# Altium integrated library TI Data Converters Analog to Digital Converter.IntLib: 2198 symbols (part 94 of 164)
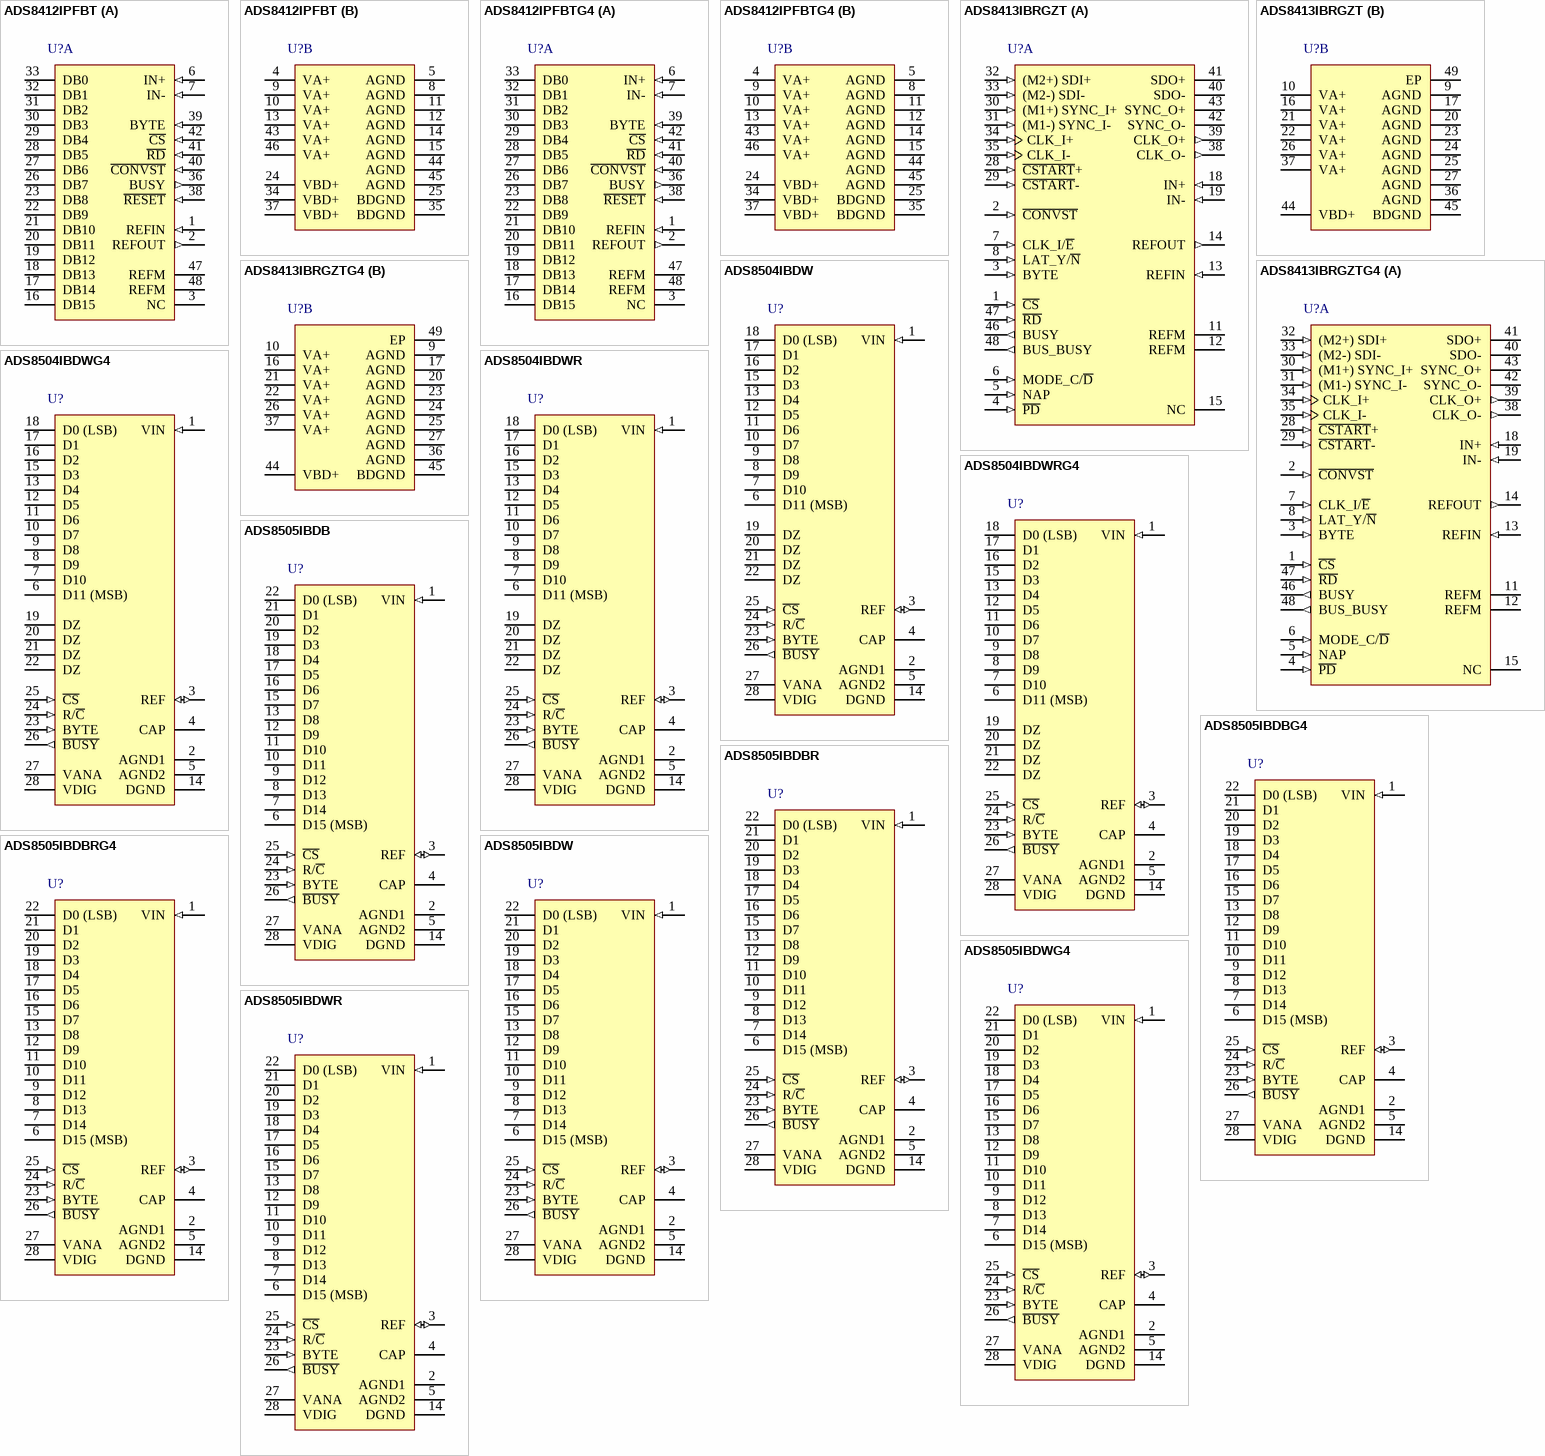
[diagram p219: symbols ADS8412IPFBT to ADS8505IBDWR]

## ADS8505IBDWG4
designator U?
16-Bit 250 kHz CMOS ADC with Parallel Interface 2.5 V Internal Reference, -40 to 85 degC, 28-pin SOIC (DW28), Green (RoHS & no Sb/Br); Manufacturer: Texas Instruments; PartNumber: ADS8505IBDWG4; # Input Channels: 1; Analog Voltage AV/DD(Max)(V): 5.25; Analog Voltage AV/DD(Min)(V): 4.75; Architecture: SAR; INL(Max)(+/-LSB): 1.5; Interface: Parallel CMOS; Resolution(Bits): 16; Sample Rate (max)(SPS): 250k; SFDR(dB): 105; SINAD(dB): 88; SubFamily: Precision ADC (<=10MSPS); DatasheetVersion: SLAS180B; PackageVersion: 4040000-6/G, 01/2011; PackageReference: DW28; PackageDescription: 28-Pin Plastic Small Outline, Body 17.90 x 7.50 mm, Pitch 1.27 mm; Supplier 1: Digi-Key; Supplier Part Number 1: ADS7816UCG4-ND; Digital Supply(Max)(V): 5.25; Digital Supply(Min)(V): 4.75; Eco-Plan: Green (RoHS & no Sb/Br); SNR(dB): 88; Mounting Technology: Surface Mount; Code_JEDEC: MS-013; ComponentLink1Description: Manufacturer URL; ComponentLink1URL: http://www.ti.com/; ComponentLink2Description: Datasheet; ComponentLink2URL: http://www.ti.com/general/docs/lit/getliterature.tsp?genericPartNumber=ADS8505&fileType=pdf; ComponentLink3Description: Package Specification; ComponentLink3URL: http://www.ti.com/lit/ml/mpds175a/mpds175a.pdf
footprint TI-DW28_N (SOIC, 28-Leads, Body 17.9x7.5mm, Pitch 1.27mm, IPC Medium Density)
footprint TI-DW28_L (SOIC, 28-Leads, Body 17.9x7.5mm, Pitch 1.27mm, IPC High Density)
footprint TI-DW28_M (SOIC, 28-Leads, Body 17.9x7.5mm, Pitch 1.27mm, IPC Low Density)
pins: 1 VIN (in) "Analog input.", 2 AGND1 (power) "Analog ground. Used internally as ground reference point.", 3 REF (io) "Reference input/output. 2.2-uF Tantalum capacitor to ground.", 4 CAP "Reference buffer capacitor. 2.2-uF Tantalum capacitor to ground.", 5 AGND2 (power) "Analog ground.", 6 D15 (MSB) (hiz) "Data bit 15. Most significant bit (MSB) of conversion results. Hi-Z state when C\S\ is high, or when R/C\ is low.", 7 D14 (hiz) "Data bit 14. Hi-Z state when C\S\ is high, or when R/C\ is low.", 8 D13 (hiz) "Data bit 13. Hi-Z state when C\S\ is high, or when R/C\ is low.", 9 D12 (hiz) "Data bit 12. Hi-Z state when C\S\ is high, or when R/C\ is low.", 10 D11 (hiz) "Data bit 11. Hi-Z state when C\S\ is high, or when R/C\ is low.", 11 D10 (hiz) "Data bit 10. Hi-Z state when C\S\ is high, or when R/C\ is low.", 12 D9 (hiz) "Data bit 9. Hi-Z state when C\S\ is high, or when R/C\ is low.", 13 D8 (hiz) "Data bit 8. Hi-Z state when C\S\ is high, or when R/C\ is low.", 14 DGND (power) "Digital ground.", 15 D7 (hiz) "Data bit 7. Hi-Z state when C\S\ is high, or when R/C\ is low.", 16 D6 (hiz) "Data bit 6. Hi-Z state when C\S\ is high, or when R/C\ is low.", 17 D5 (hiz) "Data bit 5. Hi-Z state when C\S\ is high, or when R/C\ is low.", 18 D4 (hiz) "Data bit 4. Hi-Z state when C\S\ is high, or when R/C\ is low.", 19 D3 (hiz) "Data bit 3. Hi-Z state when C\S\ is high, or when R/C\ is low.", 20 D2 (hiz) "Data bit 2. Hi-Z state when C\S\ is high, or when R/C\ is low.", 21 D1 (hiz) "Data bit 1. Hi-Z state when C\S\ is high, or when R/C\ is low.", 22 D0 (LSB) (hiz) "Data bit 0. Least significant bit (LSB) of conversion results. Hi-Z state when C\S\ is high, or when R/C\ is low.", 23 BYTE (in) "Selects 8 most significant bits (low) or 8 least significant bits (high).", 24 R/~{C} (in) "With C\S\ low and B\U\S\Y\ high, a falling edge on R/C\ initiates a new conversion. With C\S\ low, a rising edge on R/C\ enables the parallel output.", 25 ~{CS} (in) "Internally ORed with R/C\. If R/C\ is low, a falling edge on C\S\ initiates a new conversion", 26 ~{BUSY} (out) "At the start of a conversion, B\U\S\Y\ goes low and stays low until the conversion is completed and the digital outputs have been updated.", 27 VANA (power) "Analog supply input. Nominally +5 V. Decouple to ground with 0.1-uF ceramic and 10-uF tantalum capacitors.", 28 VDIG (power) "Digital supply input. Nominally +5 V. Connect directly to pin 27. Must be =< VANA ."

## ADS8505IBDWR
designator U?
16-Bit 250 kHz CMOS ADC with Parallel Interface 2.5 V Internal Reference, -40 to 85 degC, 28-pin SOIC (DW28), Green (RoHS & no Sb/Br); Manufacturer: Texas Instruments; PartNumber: ADS8505IBDWR; # Input Channels: 1; Analog Voltage AV/DD(Max)(V): 5.25; Analog Voltage AV/DD(Min)(V): 4.75; Architecture: SAR; INL(Max)(+/-LSB): 1.5; Interface: Parallel CMOS; Resolution(Bits): 16; Sample Rate (max)(SPS): 250k; SFDR(dB): 105; SINAD(dB): 88; SubFamily: Precision ADC (<=10MSPS); DatasheetVersion: SLAS180B; PackageVersion: 4040000-6/G, 01/2011; PackageReference: DW28; PackageDescription: 28-Pin Plastic Small Outline, Body 17.90 x 7.50 mm, Pitch 1.27 mm; Supplier 1: Digi-Key; Supplier Part Number 1: ADS7816UG4-ND; Digital Supply(Max)(V): 5.25; Digital Supply(Min)(V): 4.75; Eco-Plan: Green (RoHS & no Sb/Br); SNR(dB): 88; Mounting Technology: Surface Mount; Code_JEDEC: MS-013; ComponentLink1Description: Manufacturer URL; ComponentLink1URL: http://www.ti.com/; ComponentLink2Description: Datasheet; ComponentLink2URL: http://www.ti.com/general/docs/lit/getliterature.tsp?genericPartNumber=ADS8505&fileType=pdf; ComponentLink3Description: Package Specification; ComponentLink3URL: http://www.ti.com/lit/ml/mpds175a/mpds175a.pdf
footprint TI-DW28_N (SOIC, 28-Leads, Body 17.9x7.5mm, Pitch 1.27mm, IPC Medium Density)
footprint TI-DW28_L (SOIC, 28-Leads, Body 17.9x7.5mm, Pitch 1.27mm, IPC High Density)
footprint TI-DW28_M (SOIC, 28-Leads, Body 17.9x7.5mm, Pitch 1.27mm, IPC Low Density)
pins: 1 VIN (in) "Analog input.", 2 AGND1 (power) "Analog ground. Used internally as ground reference point.", 3 REF (io) "Reference input/output. 2.2-uF Tantalum capacitor to ground.", 4 CAP "Reference buffer capacitor. 2.2-uF Tantalum capacitor to ground.", 5 AGND2 (power) "Analog ground.", 6 D15 (MSB) (hiz) "Data bit 15. Most significant bit (MSB) of conversion results. Hi-Z state when C\S\ is high, or when R/C\ is low.", 7 D14 (hiz) "Data bit 14. Hi-Z state when C\S\ is high, or when R/C\ is low.", 8 D13 (hiz) "Data bit 13. Hi-Z state when C\S\ is high, or when R/C\ is low.", 9 D12 (hiz) "Data bit 12. Hi-Z state when C\S\ is high, or when R/C\ is low.", 10 D11 (hiz) "Data bit 11. Hi-Z state when C\S\ is high, or when R/C\ is low.", 11 D10 (hiz) "Data bit 10. Hi-Z state when C\S\ is high, or when R/C\ is low.", 12 D9 (hiz) "Data bit 9. Hi-Z state when C\S\ is high, or when R/C\ is low.", 13 D8 (hiz) "Data bit 8. Hi-Z state when C\S\ is high, or when R/C\ is low.", 14 DGND (power) "Digital ground.", 15 D7 (hiz) "Data bit 7. Hi-Z state when C\S\ is high, or when R/C\ is low.", 16 D6 (hiz) "Data bit 6. Hi-Z state when C\S\ is high, or when R/C\ is low.", 17 D5 (hiz) "Data bit 5. Hi-Z state when C\S\ is high, or when R/C\ is low.", 18 D4 (hiz) "Data bit 4. Hi-Z state when C\S\ is high, or when R/C\ is low.", 19 D3 (hiz) "Data bit 3. Hi-Z state when C\S\ is high, or when R/C\ is low.", 20 D2 (hiz) "Data bit 2. Hi-Z state when C\S\ is high, or when R/C\ is low.", 21 D1 (hiz) "Data bit 1. Hi-Z state when C\S\ is high, or when R/C\ is low.", 22 D0 (LSB) (hiz) "Data bit 0. Least significant bit (LSB) of conversion results. Hi-Z state when C\S\ is high, or when R/C\ is low.", 23 BYTE (in) "Selects 8 most significant bits (low) or 8 least significant bits (high).", 24 R/~{C} (in) "With C\S\ low and B\U\S\Y\ high, a falling edge on R/C\ initiates a new conversion. With C\S\ low, a rising edge on R/C\ enables the parallel output.", 25 ~{CS} (in) "Internally ORed with R/C\. If R/C\ is low, a falling edge on C\S\ initiates a new conversion", 26 ~{BUSY} (out) "At the start of a conversion, B\U\S\Y\ goes low and stays low until the conversion is completed and the digital outputs have been updated.", 27 VANA (power) "Analog supply input. Nominally +5 V. Decouple to ground with 0.1-uF ceramic and 10-uF tantalum capacitors.", 28 VDIG (power) "Digital supply input. Nominally +5 V. Connect directly to pin 27. Must be =< VANA ."

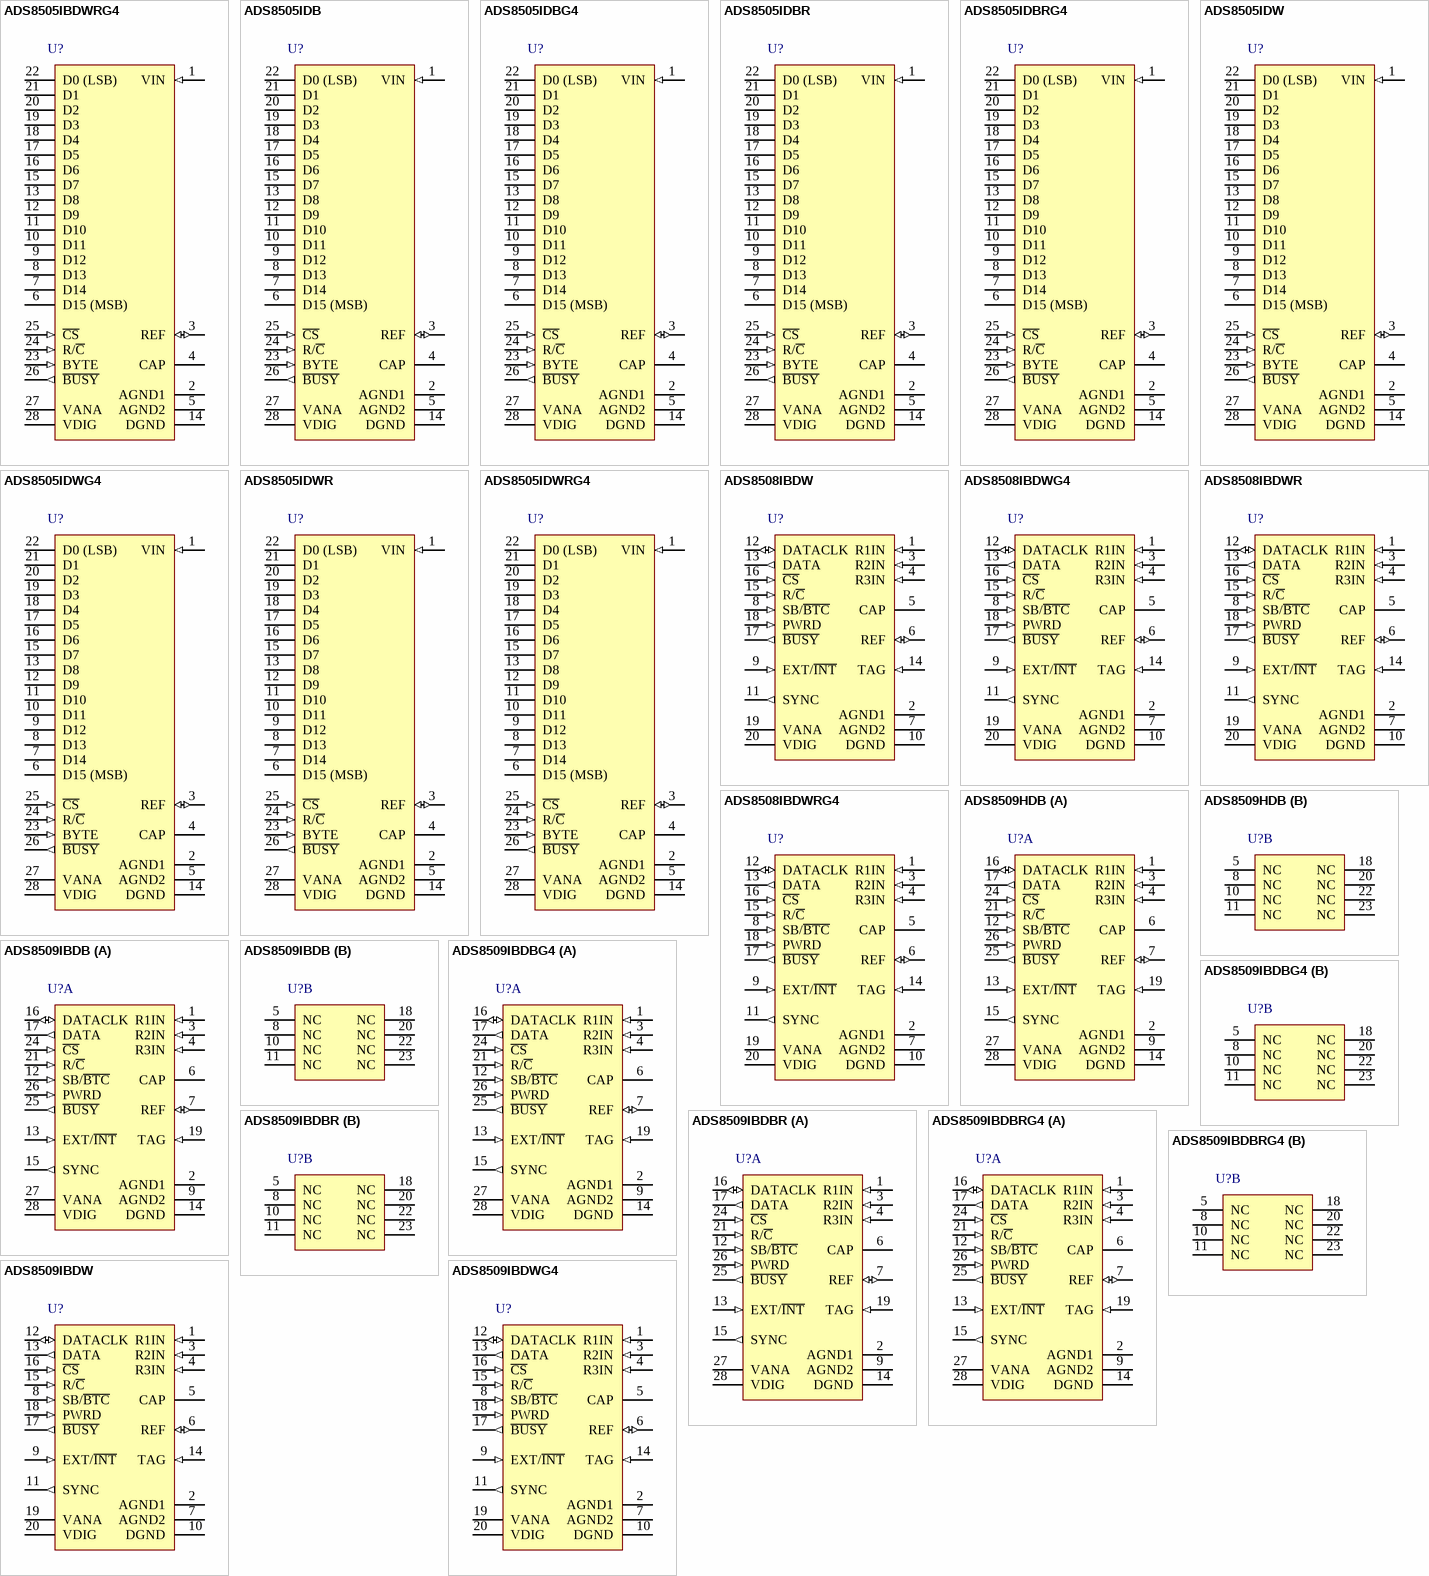
[diagram p83: symbols ADS8505IBDWRG4 to ADS8509IBDWG4]

## ADS8505IBDWRG4
designator U?
16-Bit 250 kHz CMOS ADC with Parallel Interface 2.5 V Internal Reference, -40 to 85 degC, 28-pin SOIC (DW28), Green (RoHS & no Sb/Br); Manufacturer: Texas Instruments; PartNumber: ADS8505IBDWRG4; # Input Channels: 1; Analog Voltage AV/DD(Max)(V): 5.25; Analog Voltage AV/DD(Min)(V): 4.75; Architecture: SAR; INL(Max)(+/-LSB): 1.5; Interface: Parallel CMOS; Resolution(Bits): 16; Sample Rate (max)(SPS): 250k; SFDR(dB): 105; SINAD(dB): 88; SubFamily: Precision ADC (<=10MSPS); DatasheetVersion: SLAS180B; PackageVersion: 4040000-6/G, 01/2011; PackageReference: DW28; PackageDescription: 28-Pin Plastic Small Outline, Body 17.90 x 7.50 mm, Pitch 1.27 mm; Supplier 1: Digi-Key; Supplier Part Number 1: ADS1286P-ND; Digital Supply(Max)(V): 5.25; Digital Supply(Min)(V): 4.75; Eco-Plan: Green (RoHS & no Sb/Br); SNR(dB): 88; Mounting Technology: Surface Mount; Code_JEDEC: MS-013; ComponentLink1Description: Manufacturer URL; ComponentLink1URL: http://www.ti.com/; ComponentLink2Description: Datasheet; ComponentLink2URL: http://www.ti.com/general/docs/lit/getliterature.tsp?genericPartNumber=ADS8505&fileType=pdf; ComponentLink3Description: Package Specification; ComponentLink3URL: http://www.ti.com/lit/ml/mpds175a/mpds175a.pdf
footprint TI-DW28_N (SOIC, 28-Leads, Body 17.9x7.5mm, Pitch 1.27mm, IPC Medium Density)
footprint TI-DW28_L (SOIC, 28-Leads, Body 17.9x7.5mm, Pitch 1.27mm, IPC High Density)
footprint TI-DW28_M (SOIC, 28-Leads, Body 17.9x7.5mm, Pitch 1.27mm, IPC Low Density)
pins: 1 VIN (in) "Analog input.", 2 AGND1 (power) "Analog ground. Used internally as ground reference point.", 3 REF (io) "Reference input/output. 2.2-uF Tantalum capacitor to ground.", 4 CAP "Reference buffer capacitor. 2.2-uF Tantalum capacitor to ground.", 5 AGND2 (power) "Analog ground.", 6 D15 (MSB) (hiz) "Data bit 15. Most significant bit (MSB) of conversion results. Hi-Z state when C\S\ is high, or when R/C\ is low.", 7 D14 (hiz) "Data bit 14. Hi-Z state when C\S\ is high, or when R/C\ is low.", 8 D13 (hiz) "Data bit 13. Hi-Z state when C\S\ is high, or when R/C\ is low.", 9 D12 (hiz) "Data bit 12. Hi-Z state when C\S\ is high, or when R/C\ is low.", 10 D11 (hiz) "Data bit 11. Hi-Z state when C\S\ is high, or when R/C\ is low.", 11 D10 (hiz) "Data bit 10. Hi-Z state when C\S\ is high, or when R/C\ is low.", 12 D9 (hiz) "Data bit 9. Hi-Z state when C\S\ is high, or when R/C\ is low.", 13 D8 (hiz) "Data bit 8. Hi-Z state when C\S\ is high, or when R/C\ is low.", 14 DGND (power) "Digital ground.", 15 D7 (hiz) "Data bit 7. Hi-Z state when C\S\ is high, or when R/C\ is low.", 16 D6 (hiz) "Data bit 6. Hi-Z state when C\S\ is high, or when R/C\ is low.", 17 D5 (hiz) "Data bit 5. Hi-Z state when C\S\ is high, or when R/C\ is low.", 18 D4 (hiz) "Data bit 4. Hi-Z state when C\S\ is high, or when R/C\ is low.", 19 D3 (hiz) "Data bit 3. Hi-Z state when C\S\ is high, or when R/C\ is low.", 20 D2 (hiz) "Data bit 2. Hi-Z state when C\S\ is high, or when R/C\ is low.", 21 D1 (hiz) "Data bit 1. Hi-Z state when C\S\ is high, or when R/C\ is low.", 22 D0 (LSB) (hiz) "Data bit 0. Least significant bit (LSB) of conversion results. Hi-Z state when C\S\ is high, or when R/C\ is low.", 23 BYTE (in) "Selects 8 most significant bits (low) or 8 least significant bits (high).", 24 R/~{C} (in) "With C\S\ low and B\U\S\Y\ high, a falling edge on R/C\ initiates a new conversion. With C\S\ low, a rising edge on R/C\ enables the parallel output.", 25 ~{CS} (in) "Internally ORed with R/C\. If R/C\ is low, a falling edge on C\S\ initiates a new conversion", 26 ~{BUSY} (out) "At the start of a conversion, B\U\S\Y\ goes low and stays low until the conversion is completed and the digital outputs have been updated.", 27 VANA (power) "Analog supply input. Nominally +5 V. Decouple to ground with 0.1-uF ceramic and 10-uF tantalum capacitors.", 28 VDIG (power) "Digital supply input. Nominally +5 V. Connect directly to pin 27. Must be =< VANA ."

## ADS8505IDB
designator U?
16-Bit 250 kHz CMOS ADC with Parallel Interface 2.5 V Internal Reference, -40 to 85 degC, 28-pin SOP (DB28), Green (RoHS & no Sb/Br); Manufacturer: Texas Instruments; PartNumber: ADS8505IDB; # Input Channels: 1; Analog Voltage AV/DD(Max)(V): 5.25; Analog Voltage AV/DD(Min)(V): 4.75; Architecture: SAR; INL(Max)(+/-LSB): 4; Interface: Parallel CMOS; Resolution(Bits): 16; Sample Rate (max)(SPS): 250k; SFDR(dB): 98; SINAD(dB): 88; SubFamily: Precision ADC (<=10MSPS); DatasheetVersion: SLAS180B; PackageVersion: 4040065/E, 12/2001; PackageReference: DB28; PackageDescription: 28-Pin Plastic Small Outline, Body 10.2 X 5.3 mm, Pitch 0.65 mm; Supplier 1: Digi-Key; Supplier Part Number 1: ADS1286PA-ND; Digital Supply(Max)(V): 5.25; Digital Supply(Min)(V): 4.75; Eco-Plan: Green (RoHS & no Sb/Br); SNR(dB): 88; Mounting Technology: Surface Mount; Code_JEDEC: MO-150; ComponentLink1Description: Manufacturer URL; ComponentLink1URL: http://www.ti.com/; ComponentLink2Description: Datasheet; ComponentLink2URL: http://www.ti.com/general/docs/lit/getliterature.tsp?genericPartNumber=ADS8505&fileType=pdf; ComponentLink3Description: Package Specification; ComponentLink3URL: http://www.ti.com/lit/ml/msso002e/msso002e.pdf
footprint TI-DB28_N (SOP, 28-Leads, Body 10.2x5.3mm, Pitch 0.65mm, IPC Medium Density)
footprint TI-DB28_L (SOP, 28-Leads, Body 10.2x5.3mm, Pitch 0.65mm, IPC High Density)
footprint TI-DB28_M (SOP, 28-Leads, Body 10.2x5.3mm, Pitch 0.65mm, IPC Low Density)
pins: 1 VIN (in) "Analog input.", 2 AGND1 (power) "Analog ground. Used internally as ground reference point.", 3 REF (io) "Reference input/output. 2.2-uF Tantalum capacitor to ground.", 4 CAP "Reference buffer capacitor. 2.2-uF Tantalum capacitor to ground.", 5 AGND2 (power) "Analog ground.", 6 D15 (MSB) (hiz) "Data bit 15. Most significant bit (MSB) of conversion results. Hi-Z state when C\S\ is high, or when R/C\ is low.", 7 D14 (hiz) "Data bit 14. Hi-Z state when C\S\ is high, or when R/C\ is low.", 8 D13 (hiz) "Data bit 13. Hi-Z state when C\S\ is high, or when R/C\ is low.", 9 D12 (hiz) "Data bit 12. Hi-Z state when C\S\ is high, or when R/C\ is low.", 10 D11 (hiz) "Data bit 11. Hi-Z state when C\S\ is high, or when R/C\ is low.", 11 D10 (hiz) "Data bit 10. Hi-Z state when C\S\ is high, or when R/C\ is low.", 12 D9 (hiz) "Data bit 9. Hi-Z state when C\S\ is high, or when R/C\ is low.", 13 D8 (hiz) "Data bit 8. Hi-Z state when C\S\ is high, or when R/C\ is low.", 14 DGND (power) "Digital ground.", 15 D7 (hiz) "Data bit 7. Hi-Z state when C\S\ is high, or when R/C\ is low.", 16 D6 (hiz) "Data bit 6. Hi-Z state when C\S\ is high, or when R/C\ is low.", 17 D5 (hiz) "Data bit 5. Hi-Z state when C\S\ is high, or when R/C\ is low.", 18 D4 (hiz) "Data bit 4. Hi-Z state when C\S\ is high, or when R/C\ is low.", 19 D3 (hiz) "Data bit 3. Hi-Z state when C\S\ is high, or when R/C\ is low.", 20 D2 (hiz) "Data bit 2. Hi-Z state when C\S\ is high, or when R/C\ is low.", 21 D1 (hiz) "Data bit 1. Hi-Z state when C\S\ is high, or when R/C\ is low.", 22 D0 (LSB) (hiz) "Data bit 0. Least significant bit (LSB) of conversion results. Hi-Z state when C\S\ is high, or when R/C\ is low.", 23 BYTE (in) "Selects 8 most significant bits (low) or 8 least significant bits (high).", 24 R/~{C} (in) "With C\S\ low and B\U\S\Y\ high, a falling edge on R/C\ initiates a new conversion. With C\S\ low, a rising edge on R/C\ enables the parallel output.", 25 ~{CS} (in) "Internally ORed with R/C\. If R/C\ is low, a falling edge on C\S\ initiates a new conversion", 26 ~{BUSY} (out) "At the start of a conversion, B\U\S\Y\ goes low and stays low until the conversion is completed and the digital outputs have been updated.", 27 VANA (power) "Analog supply input. Nominally +5 V. Decouple to ground with 0.1-uF ceramic and 10-uF tantalum capacitors.", 28 VDIG (power) "Digital supply input. Nominally +5 V. Connect directly to pin 27. Must be =< VANA ."

## ADS8505IDBG4
designator U?
16-Bit 250 kHz CMOS ADC with Parallel Interface 2.5 V Internal Reference, -40 to 85 degC, 28-pin SOP (DB28), Green (RoHS & no Sb/Br); Manufacturer: Texas Instruments; PartNumber: ADS8505IDBG4; # Input Channels: 1; Analog Voltage AV/DD(Max)(V): 5.25; Analog Voltage AV/DD(Min)(V): 4.75; Architecture: SAR; INL(Max)(+/-LSB): 4; Interface: Parallel CMOS; Resolution(Bits): 16; Sample Rate (max)(SPS): 250k; SFDR(dB): 98; SINAD(dB): 88; SubFamily: Precision ADC (<=10MSPS); DatasheetVersion: SLAS180B; PackageVersion: 4040065/E, 12/2001; PackageReference: DB28; PackageDescription: 28-Pin Plastic Small Outline, Body 10.2 X 5.3 mm, Pitch 0.65 mm; Supplier 1: Digi-Key; Supplier Part Number 1: ADS1286PAG4-ND; Digital Supply(Max)(V): 5.25; Digital Supply(Min)(V): 4.75; Eco-Plan: Green (RoHS & no Sb/Br); SNR(dB): 88; Mounting Technology: Surface Mount; Code_JEDEC: MO-150; ComponentLink1Description: Manufacturer URL; ComponentLink1URL: http://www.ti.com/; ComponentLink2Description: Datasheet; ComponentLink2URL: http://www.ti.com/general/docs/lit/getliterature.tsp?genericPartNumber=ADS8505&fileType=pdf; ComponentLink3Description: Package Specification; ComponentLink3URL: http://www.ti.com/lit/ml/msso002e/msso002e.pdf
footprint TI-DB28_N (SOP, 28-Leads, Body 10.2x5.3mm, Pitch 0.65mm, IPC Medium Density)
footprint TI-DB28_L (SOP, 28-Leads, Body 10.2x5.3mm, Pitch 0.65mm, IPC High Density)
footprint TI-DB28_M (SOP, 28-Leads, Body 10.2x5.3mm, Pitch 0.65mm, IPC Low Density)
pins: 1 VIN (in) "Analog input.", 2 AGND1 (power) "Analog ground. Used internally as ground reference point.", 3 REF (io) "Reference input/output. 2.2-uF Tantalum capacitor to ground.", 4 CAP "Reference buffer capacitor. 2.2-uF Tantalum capacitor to ground.", 5 AGND2 (power) "Analog ground.", 6 D15 (MSB) (hiz) "Data bit 15. Most significant bit (MSB) of conversion results. Hi-Z state when C\S\ is high, or when R/C\ is low.", 7 D14 (hiz) "Data bit 14. Hi-Z state when C\S\ is high, or when R/C\ is low.", 8 D13 (hiz) "Data bit 13. Hi-Z state when C\S\ is high, or when R/C\ is low.", 9 D12 (hiz) "Data bit 12. Hi-Z state when C\S\ is high, or when R/C\ is low.", 10 D11 (hiz) "Data bit 11. Hi-Z state when C\S\ is high, or when R/C\ is low.", 11 D10 (hiz) "Data bit 10. Hi-Z state when C\S\ is high, or when R/C\ is low.", 12 D9 (hiz) "Data bit 9. Hi-Z state when C\S\ is high, or when R/C\ is low.", 13 D8 (hiz) "Data bit 8. Hi-Z state when C\S\ is high, or when R/C\ is low.", 14 DGND (power) "Digital ground.", 15 D7 (hiz) "Data bit 7. Hi-Z state when C\S\ is high, or when R/C\ is low.", 16 D6 (hiz) "Data bit 6. Hi-Z state when C\S\ is high, or when R/C\ is low.", 17 D5 (hiz) "Data bit 5. Hi-Z state when C\S\ is high, or when R/C\ is low.", 18 D4 (hiz) "Data bit 4. Hi-Z state when C\S\ is high, or when R/C\ is low.", 19 D3 (hiz) "Data bit 3. Hi-Z state when C\S\ is high, or when R/C\ is low.", 20 D2 (hiz) "Data bit 2. Hi-Z state when C\S\ is high, or when R/C\ is low.", 21 D1 (hiz) "Data bit 1. Hi-Z state when C\S\ is high, or when R/C\ is low.", 22 D0 (LSB) (hiz) "Data bit 0. Least significant bit (LSB) of conversion results. Hi-Z state when C\S\ is high, or when R/C\ is low.", 23 BYTE (in) "Selects 8 most significant bits (low) or 8 least significant bits (high).", 24 R/~{C} (in) "With C\S\ low and B\U\S\Y\ high, a falling edge on R/C\ initiates a new conversion. With C\S\ low, a rising edge on R/C\ enables the parallel output.", 25 ~{CS} (in) "Internally ORed with R/C\. If R/C\ is low, a falling edge on C\S\ initiates a new conversion", 26 ~{BUSY} (out) "At the start of a conversion, B\U\S\Y\ goes low and stays low until the conversion is completed and the digital outputs have been updated.", 27 VANA (power) "Analog supply input. Nominally +5 V. Decouple to ground with 0.1-uF ceramic and 10-uF tantalum capacitors.", 28 VDIG (power) "Digital supply input. Nominally +5 V. Connect directly to pin 27. Must be =< VANA ."

## ADS8505IDBR
designator U?
16-Bit 250 kHz CMOS ADC with Parallel Interface 2.5 V Internal Reference, -40 to 85 degC, 28-pin SOP (DB28), Green (RoHS & no Sb/Br); Manufacturer: Texas Instruments; PartNumber: ADS8505IDBR; # Input Channels: 1; Analog Voltage AV/DD(Max)(V): 5.25; Analog Voltage AV/DD(Min)(V): 4.75; Architecture: SAR; INL(Max)(+/-LSB): 4; Interface: Parallel CMOS; Resolution(Bits): 16; Sample Rate (max)(SPS): 250k; SFDR(dB): 98; SINAD(dB): 88; SubFamily: Precision ADC (<=10MSPS); DatasheetVersion: SLAS180B; PackageVersion: 4040065/E, 12/2001; PackageReference: DB28; PackageDescription: 28-Pin Plastic Small Outline, Body 10.2 X 5.3 mm, Pitch 0.65 mm; Supplier 1: Digi-Key; Supplier Part Number 1: 296-32816-5-ND; Digital Supply(Max)(V): 5.25; Digital Supply(Min)(V): 4.75; Eco-Plan: Green (RoHS & no Sb/Br); SNR(dB): 88; Mounting Technology: Surface Mount; Code_JEDEC: MO-150; ComponentLink1Description: Manufacturer URL; ComponentLink1URL: http://www.ti.com/; ComponentLink2Description: Datasheet; ComponentLink2URL: http://www.ti.com/general/docs/lit/getliterature.tsp?genericPartNumber=ADS8505&fileType=pdf; ComponentLink3Description: Package Specification; ComponentLink3URL: http://www.ti.com/lit/ml/msso002e/msso002e.pdf
footprint TI-DB28_N (SOP, 28-Leads, Body 10.2x5.3mm, Pitch 0.65mm, IPC Medium Density)
footprint TI-DB28_L (SOP, 28-Leads, Body 10.2x5.3mm, Pitch 0.65mm, IPC High Density)
footprint TI-DB28_M (SOP, 28-Leads, Body 10.2x5.3mm, Pitch 0.65mm, IPC Low Density)
pins: 1 VIN (in) "Analog input.", 2 AGND1 (power) "Analog ground. Used internally as ground reference point.", 3 REF (io) "Reference input/output. 2.2-uF Tantalum capacitor to ground.", 4 CAP "Reference buffer capacitor. 2.2-uF Tantalum capacitor to ground.", 5 AGND2 (power) "Analog ground.", 6 D15 (MSB) (hiz) "Data bit 15. Most significant bit (MSB) of conversion results. Hi-Z state when C\S\ is high, or when R/C\ is low.", 7 D14 (hiz) "Data bit 14. Hi-Z state when C\S\ is high, or when R/C\ is low.", 8 D13 (hiz) "Data bit 13. Hi-Z state when C\S\ is high, or when R/C\ is low.", 9 D12 (hiz) "Data bit 12. Hi-Z state when C\S\ is high, or when R/C\ is low.", 10 D11 (hiz) "Data bit 11. Hi-Z state when C\S\ is high, or when R/C\ is low.", 11 D10 (hiz) "Data bit 10. Hi-Z state when C\S\ is high, or when R/C\ is low.", 12 D9 (hiz) "Data bit 9. Hi-Z state when C\S\ is high, or when R/C\ is low.", 13 D8 (hiz) "Data bit 8. Hi-Z state when C\S\ is high, or when R/C\ is low.", 14 DGND (power) "Digital ground.", 15 D7 (hiz) "Data bit 7. Hi-Z state when C\S\ is high, or when R/C\ is low.", 16 D6 (hiz) "Data bit 6. Hi-Z state when C\S\ is high, or when R/C\ is low.", 17 D5 (hiz) "Data bit 5. Hi-Z state when C\S\ is high, or when R/C\ is low.", 18 D4 (hiz) "Data bit 4. Hi-Z state when C\S\ is high, or when R/C\ is low.", 19 D3 (hiz) "Data bit 3. Hi-Z state when C\S\ is high, or when R/C\ is low.", 20 D2 (hiz) "Data bit 2. Hi-Z state when C\S\ is high, or when R/C\ is low.", 21 D1 (hiz) "Data bit 1. Hi-Z state when C\S\ is high, or when R/C\ is low.", 22 D0 (LSB) (hiz) "Data bit 0. Least significant bit (LSB) of conversion results. Hi-Z state when C\S\ is high, or when R/C\ is low.", 23 BYTE (in) "Selects 8 most significant bits (low) or 8 least significant bits (high).", 24 R/~{C} (in) "With C\S\ low and B\U\S\Y\ high, a falling edge on R/C\ initiates a new conversion. With C\S\ low, a rising edge on R/C\ enables the parallel output.", 25 ~{CS} (in) "Internally ORed with R/C\. If R/C\ is low, a falling edge on C\S\ initiates a new conversion", 26 ~{BUSY} (out) "At the start of a conversion, B\U\S\Y\ goes low and stays low until the conversion is completed and the digital outputs have been updated.", 27 VANA (power) "Analog supply input. Nominally +5 V. Decouple to ground with 0.1-uF ceramic and 10-uF tantalum capacitors.", 28 VDIG (power) "Digital supply input. Nominally +5 V. Connect directly to pin 27. Must be =< VANA ."

## ADS8505IDBRG4
designator U?
16-Bit 250 kHz CMOS ADC with Parallel Interface 2.5 V Internal Reference, -40 to 85 degC, 28-pin SOP (DB28), Green (RoHS & no Sb/Br); Manufacturer: Texas Instruments; PartNumber: ADS8505IDBRG4; # Input Channels: 1; Analog Voltage AV/DD(Max)(V): 5.25; Analog Voltage AV/DD(Min)(V): 4.75; Architecture: SAR; INL(Max)(+/-LSB): 4; Interface: Parallel CMOS; Resolution(Bits): 16; Sample Rate (max)(SPS): 250k; SFDR(dB): 98; SINAD(dB): 88; SubFamily: Precision ADC (<=10MSPS); DatasheetVersion: SLAS180B; PackageVersion: 4040065/E, 12/2001; PackageReference: DB28; PackageDescription: 28-Pin Plastic Small Outline, Body 10.2 X 5.3 mm, Pitch 0.65 mm; Supplier 1: Digi-Key; Supplier Part Number 1: ADS1286PCG4-ND; Digital Supply(Max)(V): 5.25; Digital Supply(Min)(V): 4.75; Eco-Plan: Green (RoHS & no Sb/Br); SNR(dB): 88; Mounting Technology: Surface Mount; Code_JEDEC: MO-150; ComponentLink1Description: Manufacturer URL; ComponentLink1URL: http://www.ti.com/; ComponentLink2Description: Datasheet; ComponentLink2URL: http://www.ti.com/general/docs/lit/getliterature.tsp?genericPartNumber=ADS8505&fileType=pdf; ComponentLink3Description: Package Specification; ComponentLink3URL: http://www.ti.com/lit/ml/msso002e/msso002e.pdf
footprint TI-DB28_N (SOP, 28-Leads, Body 10.2x5.3mm, Pitch 0.65mm, IPC Medium Density)
footprint TI-DB28_L (SOP, 28-Leads, Body 10.2x5.3mm, Pitch 0.65mm, IPC High Density)
footprint TI-DB28_M (SOP, 28-Leads, Body 10.2x5.3mm, Pitch 0.65mm, IPC Low Density)
pins: 1 VIN (in) "Analog input.", 2 AGND1 (power) "Analog ground. Used internally as ground reference point.", 3 REF (io) "Reference input/output. 2.2-uF Tantalum capacitor to ground.", 4 CAP "Reference buffer capacitor. 2.2-uF Tantalum capacitor to ground.", 5 AGND2 (power) "Analog ground.", 6 D15 (MSB) (hiz) "Data bit 15. Most significant bit (MSB) of conversion results. Hi-Z state when C\S\ is high, or when R/C\ is low.", 7 D14 (hiz) "Data bit 14. Hi-Z state when C\S\ is high, or when R/C\ is low.", 8 D13 (hiz) "Data bit 13. Hi-Z state when C\S\ is high, or when R/C\ is low.", 9 D12 (hiz) "Data bit 12. Hi-Z state when C\S\ is high, or when R/C\ is low.", 10 D11 (hiz) "Data bit 11. Hi-Z state when C\S\ is high, or when R/C\ is low.", 11 D10 (hiz) "Data bit 10. Hi-Z state when C\S\ is high, or when R/C\ is low.", 12 D9 (hiz) "Data bit 9. Hi-Z state when C\S\ is high, or when R/C\ is low.", 13 D8 (hiz) "Data bit 8. Hi-Z state when C\S\ is high, or when R/C\ is low.", 14 DGND (power) "Digital ground.", 15 D7 (hiz) "Data bit 7. Hi-Z state when C\S\ is high, or when R/C\ is low.", 16 D6 (hiz) "Data bit 6. Hi-Z state when C\S\ is high, or when R/C\ is low.", 17 D5 (hiz) "Data bit 5. Hi-Z state when C\S\ is high, or when R/C\ is low.", 18 D4 (hiz) "Data bit 4. Hi-Z state when C\S\ is high, or when R/C\ is low.", 19 D3 (hiz) "Data bit 3. Hi-Z state when C\S\ is high, or when R/C\ is low.", 20 D2 (hiz) "Data bit 2. Hi-Z state when C\S\ is high, or when R/C\ is low.", 21 D1 (hiz) "Data bit 1. Hi-Z state when C\S\ is high, or when R/C\ is low.", 22 D0 (LSB) (hiz) "Data bit 0. Least significant bit (LSB) of conversion results. Hi-Z state when C\S\ is high, or when R/C\ is low.", 23 BYTE (in) "Selects 8 most significant bits (low) or 8 least significant bits (high).", 24 R/~{C} (in) "With C\S\ low and B\U\S\Y\ high, a falling edge on R/C\ initiates a new conversion. With C\S\ low, a rising edge on R/C\ enables the parallel output.", 25 ~{CS} (in) "Internally ORed with R/C\. If R/C\ is low, a falling edge on C\S\ initiates a new conversion", 26 ~{BUSY} (out) "At the start of a conversion, B\U\S\Y\ goes low and stays low until the conversion is completed and the digital outputs have been updated.", 27 VANA (power) "Analog supply input. Nominally +5 V. Decouple to ground with 0.1-uF ceramic and 10-uF tantalum capacitors.", 28 VDIG (power) "Digital supply input. Nominally +5 V. Connect directly to pin 27. Must be =< VANA ."

## ADS8505IDW
designator U?
16-Bit 250 kHz CMOS ADC with Parallel Interface 2.5 V Internal Reference, -40 to 85 degC, 28-pin SOIC (DW28), Green (RoHS & no Sb/Br); Manufacturer: Texas Instruments; PartNumber: ADS8505IDW; # Input Channels: 1; Analog Voltage AV/DD(Max)(V): 5.25; Analog Voltage AV/DD(Min)(V): 4.75; Architecture: SAR; INL(Max)(+/-LSB): 4; Interface: Parallel CMOS; Resolution(Bits): 16; Sample Rate (max)(SPS): 250k; SFDR(dB): 98; SINAD(dB): 88; SubFamily: Precision ADC (<=10MSPS); DatasheetVersion: SLAS180B; PackageVersion: 4040000-6/G, 01/2011; PackageReference: DW28; PackageDescription: 28-Pin Plastic Small Outline, Body 17.90 x 7.50 mm, Pitch 1.27 mm; Supplier 1: Digi-Key; Supplier Part Number 1: ADS1286PG4-ND; Digital Supply(Max)(V): 5.25; Digital Supply(Min)(V): 4.75; Eco-Plan: Green (RoHS & no Sb/Br); SNR(dB): 88; Mounting Technology: Surface Mount; Code_JEDEC: MS-013; ComponentLink1Description: Manufacturer URL; ComponentLink1URL: http://www.ti.com/; ComponentLink2Description: Datasheet; ComponentLink2URL: http://www.ti.com/general/docs/lit/getliterature.tsp?genericPartNumber=ADS8505&fileType=pdf; ComponentLink3Description: Package Specification; ComponentLink3URL: http://www.ti.com/lit/ml/mpds175a/mpds175a.pdf
footprint TI-DW28_N (SOIC, 28-Leads, Body 17.9x7.5mm, Pitch 1.27mm, IPC Medium Density)
footprint TI-DW28_L (SOIC, 28-Leads, Body 17.9x7.5mm, Pitch 1.27mm, IPC High Density)
footprint TI-DW28_M (SOIC, 28-Leads, Body 17.9x7.5mm, Pitch 1.27mm, IPC Low Density)
pins: 1 VIN (in) "Analog input.", 2 AGND1 (power) "Analog ground. Used internally as ground reference point.", 3 REF (io) "Reference input/output. 2.2-uF Tantalum capacitor to ground.", 4 CAP "Reference buffer capacitor. 2.2-uF Tantalum capacitor to ground.", 5 AGND2 (power) "Analog ground.", 6 D15 (MSB) (hiz) "Data bit 15. Most significant bit (MSB) of conversion results. Hi-Z state when C\S\ is high, or when R/C\ is low.", 7 D14 (hiz) "Data bit 14. Hi-Z state when C\S\ is high, or when R/C\ is low.", 8 D13 (hiz) "Data bit 13. Hi-Z state when C\S\ is high, or when R/C\ is low.", 9 D12 (hiz) "Data bit 12. Hi-Z state when C\S\ is high, or when R/C\ is low.", 10 D11 (hiz) "Data bit 11. Hi-Z state when C\S\ is high, or when R/C\ is low.", 11 D10 (hiz) "Data bit 10. Hi-Z state when C\S\ is high, or when R/C\ is low.", 12 D9 (hiz) "Data bit 9. Hi-Z state when C\S\ is high, or when R/C\ is low.", 13 D8 (hiz) "Data bit 8. Hi-Z state when C\S\ is high, or when R/C\ is low.", 14 DGND (power) "Digital ground.", 15 D7 (hiz) "Data bit 7. Hi-Z state when C\S\ is high, or when R/C\ is low.", 16 D6 (hiz) "Data bit 6. Hi-Z state when C\S\ is high, or when R/C\ is low.", 17 D5 (hiz) "Data bit 5. Hi-Z state when C\S\ is high, or when R/C\ is low.", 18 D4 (hiz) "Data bit 4. Hi-Z state when C\S\ is high, or when R/C\ is low.", 19 D3 (hiz) "Data bit 3. Hi-Z state when C\S\ is high, or when R/C\ is low.", 20 D2 (hiz) "Data bit 2. Hi-Z state when C\S\ is high, or when R/C\ is low.", 21 D1 (hiz) "Data bit 1. Hi-Z state when C\S\ is high, or when R/C\ is low.", 22 D0 (LSB) (hiz) "Data bit 0. Least significant bit (LSB) of conversion results. Hi-Z state when C\S\ is high, or when R/C\ is low.", 23 BYTE (in) "Selects 8 most significant bits (low) or 8 least significant bits (high).", 24 R/~{C} (in) "With C\S\ low and B\U\S\Y\ high, a falling edge on R/C\ initiates a new conversion. With C\S\ low, a rising edge on R/C\ enables the parallel output.", 25 ~{CS} (in) "Internally ORed with R/C\. If R/C\ is low, a falling edge on C\S\ initiates a new conversion", 26 ~{BUSY} (out) "At the start of a conversion, B\U\S\Y\ goes low and stays low until the conversion is completed and the digital outputs have been updated.", 27 VANA (power) "Analog supply input. Nominally +5 V. Decouple to ground with 0.1-uF ceramic and 10-uF tantalum capacitors.", 28 VDIG (power) "Digital supply input. Nominally +5 V. Connect directly to pin 27. Must be =< VANA ."

## ADS8505IDWG4
designator U?
16-Bit 250 kHz CMOS ADC with Parallel Interface 2.5 V Internal Reference, -40 to 85 degC, 28-pin SOIC (DW28), Green (RoHS & no Sb/Br); Manufacturer: Texas Instruments; PartNumber: ADS8505IDWG4; # Input Channels: 1; Analog Voltage AV/DD(Max)(V): 5.25; Analog Voltage AV/DD(Min)(V): 4.75; Architecture: SAR; INL(Max)(+/-LSB): 4; Interface: Parallel CMOS; Resolution(Bits): 16; Sample Rate (max)(SPS): 250k; SFDR(dB): 98; SINAD(dB): 88; SubFamily: Precision ADC (<=10MSPS); DatasheetVersion: SLAS180B; PackageVersion: 4040000-6/G, 01/2011; PackageReference: DW28; PackageDescription: 28-Pin Plastic Small Outline, Body 17.90 x 7.50 mm, Pitch 1.27 mm; Supplier 1: Digi-Key; Supplier Part Number 1: 296-32817-5-ND; Digital Supply(Max)(V): 5.25; Digital Supply(Min)(V): 4.75; Eco-Plan: Green (RoHS & no Sb/Br); SNR(dB): 88; Mounting Technology: Surface Mount; Code_JEDEC: MS-013; ComponentLink1Description: Manufacturer URL; ComponentLink1URL: http://www.ti.com/; ComponentLink2Description: Datasheet; ComponentLink2URL: http://www.ti.com/general/docs/lit/getliterature.tsp?genericPartNumber=ADS8505&fileType=pdf; ComponentLink3Description: Package Specification; ComponentLink3URL: http://www.ti.com/lit/ml/mpds175a/mpds175a.pdf
footprint TI-DW28_N (SOIC, 28-Leads, Body 17.9x7.5mm, Pitch 1.27mm, IPC Medium Density)
footprint TI-DW28_L (SOIC, 28-Leads, Body 17.9x7.5mm, Pitch 1.27mm, IPC High Density)
footprint TI-DW28_M (SOIC, 28-Leads, Body 17.9x7.5mm, Pitch 1.27mm, IPC Low Density)
pins: 1 VIN (in) "Analog input.", 2 AGND1 (power) "Analog ground. Used internally as ground reference point.", 3 REF (io) "Reference input/output. 2.2-uF Tantalum capacitor to ground.", 4 CAP "Reference buffer capacitor. 2.2-uF Tantalum capacitor to ground.", 5 AGND2 (power) "Analog ground.", 6 D15 (MSB) (hiz) "Data bit 15. Most significant bit (MSB) of conversion results. Hi-Z state when C\S\ is high, or when R/C\ is low.", 7 D14 (hiz) "Data bit 14. Hi-Z state when C\S\ is high, or when R/C\ is low.", 8 D13 (hiz) "Data bit 13. Hi-Z state when C\S\ is high, or when R/C\ is low.", 9 D12 (hiz) "Data bit 12. Hi-Z state when C\S\ is high, or when R/C\ is low.", 10 D11 (hiz) "Data bit 11. Hi-Z state when C\S\ is high, or when R/C\ is low.", 11 D10 (hiz) "Data bit 10. Hi-Z state when C\S\ is high, or when R/C\ is low.", 12 D9 (hiz) "Data bit 9. Hi-Z state when C\S\ is high, or when R/C\ is low.", 13 D8 (hiz) "Data bit 8. Hi-Z state when C\S\ is high, or when R/C\ is low.", 14 DGND (power) "Digital ground.", 15 D7 (hiz) "Data bit 7. Hi-Z state when C\S\ is high, or when R/C\ is low.", 16 D6 (hiz) "Data bit 6. Hi-Z state when C\S\ is high, or when R/C\ is low.", 17 D5 (hiz) "Data bit 5. Hi-Z state when C\S\ is high, or when R/C\ is low.", 18 D4 (hiz) "Data bit 4. Hi-Z state when C\S\ is high, or when R/C\ is low.", 19 D3 (hiz) "Data bit 3. Hi-Z state when C\S\ is high, or when R/C\ is low.", 20 D2 (hiz) "Data bit 2. Hi-Z state when C\S\ is high, or when R/C\ is low.", 21 D1 (hiz) "Data bit 1. Hi-Z state when C\S\ is high, or when R/C\ is low.", 22 D0 (LSB) (hiz) "Data bit 0. Least significant bit (LSB) of conversion results. Hi-Z state when C\S\ is high, or when R/C\ is low.", 23 BYTE (in) "Selects 8 most significant bits (low) or 8 least significant bits (high).", 24 R/~{C} (in) "With C\S\ low and B\U\S\Y\ high, a falling edge on R/C\ initiates a new conversion. With C\S\ low, a rising edge on R/C\ enables the parallel output.", 25 ~{CS} (in) "Internally ORed with R/C\. If R/C\ is low, a falling edge on C\S\ initiates a new conversion", 26 ~{BUSY} (out) "At the start of a conversion, B\U\S\Y\ goes low and stays low until the conversion is completed and the digital outputs have been updated.", 27 VANA (power) "Analog supply input. Nominally +5 V. Decouple to ground with 0.1-uF ceramic and 10-uF tantalum capacitors.", 28 VDIG (power) "Digital supply input. Nominally +5 V. Connect directly to pin 27. Must be =< VANA ."

## ADS8505IDWR
designator U?
16-Bit 250 kHz CMOS ADC with Parallel Interface 2.5 V Internal Reference, -40 to 85 degC, 28-pin SOIC (DW28), Green (RoHS & no Sb/Br); Manufacturer: Texas Instruments; PartNumber: ADS8505IDWR; # Input Channels: 1; Analog Voltage AV/DD(Max)(V): 5.25; Analog Voltage AV/DD(Min)(V): 4.75; Architecture: SAR; INL(Max)(+/-LSB): 4; Interface: Parallel CMOS; Resolution(Bits): 16; Sample Rate (max)(SPS): 250k; SFDR(dB): 98; SINAD(dB): 88; SubFamily: Precision ADC (<=10MSPS); DatasheetVersion: SLAS180B; PackageVersion: 4040000-6/G, 01/2011; PackageReference: DW28; PackageDescription: 28-Pin Plastic Small Outline, Body 17.90 x 7.50 mm, Pitch 1.27 mm; Supplier 1: Digi-Key; Supplier Part Number 1: ADS1286PKG4-ND; Digital Supply(Max)(V): 5.25; Digital Supply(Min)(V): 4.75; Eco-Plan: Green (RoHS & no Sb/Br); SNR(dB): 88; Mounting Technology: Surface Mount; Code_JEDEC: MS-013; ComponentLink1Description: Manufacturer URL; ComponentLink1URL: http://www.ti.com/; ComponentLink2Description: Datasheet; ComponentLink2URL: http://www.ti.com/general/docs/lit/getliterature.tsp?genericPartNumber=ADS8505&fileType=pdf; ComponentLink3Description: Package Specification; ComponentLink3URL: http://www.ti.com/lit/ml/mpds175a/mpds175a.pdf
footprint TI-DW28_N (SOIC, 28-Leads, Body 17.9x7.5mm, Pitch 1.27mm, IPC Medium Density)
footprint TI-DW28_L (SOIC, 28-Leads, Body 17.9x7.5mm, Pitch 1.27mm, IPC High Density)
footprint TI-DW28_M (SOIC, 28-Leads, Body 17.9x7.5mm, Pitch 1.27mm, IPC Low Density)
pins: 1 VIN (in) "Analog input.", 2 AGND1 (power) "Analog ground. Used internally as ground reference point.", 3 REF (io) "Reference input/output. 2.2-uF Tantalum capacitor to ground.", 4 CAP "Reference buffer capacitor. 2.2-uF Tantalum capacitor to ground.", 5 AGND2 (power) "Analog ground.", 6 D15 (MSB) (hiz) "Data bit 15. Most significant bit (MSB) of conversion results. Hi-Z state when C\S\ is high, or when R/C\ is low.", 7 D14 (hiz) "Data bit 14. Hi-Z state when C\S\ is high, or when R/C\ is low.", 8 D13 (hiz) "Data bit 13. Hi-Z state when C\S\ is high, or when R/C\ is low.", 9 D12 (hiz) "Data bit 12. Hi-Z state when C\S\ is high, or when R/C\ is low.", 10 D11 (hiz) "Data bit 11. Hi-Z state when C\S\ is high, or when R/C\ is low.", 11 D10 (hiz) "Data bit 10. Hi-Z state when C\S\ is high, or when R/C\ is low.", 12 D9 (hiz) "Data bit 9. Hi-Z state when C\S\ is high, or when R/C\ is low.", 13 D8 (hiz) "Data bit 8. Hi-Z state when C\S\ is high, or when R/C\ is low.", 14 DGND (power) "Digital ground.", 15 D7 (hiz) "Data bit 7. Hi-Z state when C\S\ is high, or when R/C\ is low.", 16 D6 (hiz) "Data bit 6. Hi-Z state when C\S\ is high, or when R/C\ is low.", 17 D5 (hiz) "Data bit 5. Hi-Z state when C\S\ is high, or when R/C\ is low.", 18 D4 (hiz) "Data bit 4. Hi-Z state when C\S\ is high, or when R/C\ is low.", 19 D3 (hiz) "Data bit 3. Hi-Z state when C\S\ is high, or when R/C\ is low.", 20 D2 (hiz) "Data bit 2. Hi-Z state when C\S\ is high, or when R/C\ is low.", 21 D1 (hiz) "Data bit 1. Hi-Z state when C\S\ is high, or when R/C\ is low.", 22 D0 (LSB) (hiz) "Data bit 0. Least significant bit (LSB) of conversion results. Hi-Z state when C\S\ is high, or when R/C\ is low.", 23 BYTE (in) "Selects 8 most significant bits (low) or 8 least significant bits (high).", 24 R/~{C} (in) "With C\S\ low and B\U\S\Y\ high, a falling edge on R/C\ initiates a new conversion. With C\S\ low, a rising edge on R/C\ enables the parallel output.", 25 ~{CS} (in) "Internally ORed with R/C\. If R/C\ is low, a falling edge on C\S\ initiates a new conversion", 26 ~{BUSY} (out) "At the start of a conversion, B\U\S\Y\ goes low and stays low until the conversion is completed and the digital outputs have been updated.", 27 VANA (power) "Analog supply input. Nominally +5 V. Decouple to ground with 0.1-uF ceramic and 10-uF tantalum capacitors.", 28 VDIG (power) "Digital supply input. Nominally +5 V. Connect directly to pin 27. Must be =< VANA ."

## ADS8505IDWRG4
designator U?
16-Bit 250 kHz CMOS ADC with Parallel Interface 2.5 V Internal Reference, -40 to 85 degC, 28-pin SOIC (DW28), Green (RoHS & no Sb/Br); Manufacturer: Texas Instruments; PartNumber: ADS8505IDWRG4; # Input Channels: 1; Analog Voltage AV/DD(Max)(V): 5.25; Analog Voltage AV/DD(Min)(V): 4.75; Architecture: SAR; INL(Max)(+/-LSB): 4; Interface: Parallel CMOS; Resolution(Bits): 16; Sample Rate (max)(SPS): 250k; SFDR(dB): 98; SINAD(dB): 88; SubFamily: Precision ADC (<=10MSPS); DatasheetVersion: SLAS180B; PackageVersion: 4040000-6/G, 01/2011; PackageReference: DW28; PackageDescription: 28-Pin Plastic Small Outline, Body 17.90 x 7.50 mm, Pitch 1.27 mm; Supplier 1: Digi-Key; Supplier Part Number 1: 296-32818-5-ND; Digital Supply(Max)(V): 5.25; Digital Supply(Min)(V): 4.75; Eco-Plan: Green (RoHS & no Sb/Br); SNR(dB): 88; Mounting Technology: Surface Mount; Code_JEDEC: MS-013; ComponentLink1Description: Manufacturer URL; ComponentLink1URL: http://www.ti.com/; ComponentLink2Description: Datasheet; ComponentLink2URL: http://www.ti.com/general/docs/lit/getliterature.tsp?genericPartNumber=ADS8505&fileType=pdf; ComponentLink3Description: Package Specification; ComponentLink3URL: http://www.ti.com/lit/ml/mpds175a/mpds175a.pdf
footprint TI-DW28_N (SOIC, 28-Leads, Body 17.9x7.5mm, Pitch 1.27mm, IPC Medium Density)
footprint TI-DW28_L (SOIC, 28-Leads, Body 17.9x7.5mm, Pitch 1.27mm, IPC High Density)
footprint TI-DW28_M (SOIC, 28-Leads, Body 17.9x7.5mm, Pitch 1.27mm, IPC Low Density)
pins: 1 VIN (in) "Analog input.", 2 AGND1 (power) "Analog ground. Used internally as ground reference point.", 3 REF (io) "Reference input/output. 2.2-uF Tantalum capacitor to ground.", 4 CAP "Reference buffer capacitor. 2.2-uF Tantalum capacitor to ground.", 5 AGND2 (power) "Analog ground.", 6 D15 (MSB) (hiz) "Data bit 15. Most significant bit (MSB) of conversion results. Hi-Z state when C\S\ is high, or when R/C\ is low.", 7 D14 (hiz) "Data bit 14. Hi-Z state when C\S\ is high, or when R/C\ is low.", 8 D13 (hiz) "Data bit 13. Hi-Z state when C\S\ is high, or when R/C\ is low.", 9 D12 (hiz) "Data bit 12. Hi-Z state when C\S\ is high, or when R/C\ is low.", 10 D11 (hiz) "Data bit 11. Hi-Z state when C\S\ is high, or when R/C\ is low.", 11 D10 (hiz) "Data bit 10. Hi-Z state when C\S\ is high, or when R/C\ is low.", 12 D9 (hiz) "Data bit 9. Hi-Z state when C\S\ is high, or when R/C\ is low.", 13 D8 (hiz) "Data bit 8. Hi-Z state when C\S\ is high, or when R/C\ is low.", 14 DGND (power) "Digital ground.", 15 D7 (hiz) "Data bit 7. Hi-Z state when C\S\ is high, or when R/C\ is low.", 16 D6 (hiz) "Data bit 6. Hi-Z state when C\S\ is high, or when R/C\ is low.", 17 D5 (hiz) "Data bit 5. Hi-Z state when C\S\ is high, or when R/C\ is low.", 18 D4 (hiz) "Data bit 4. Hi-Z state when C\S\ is high, or when R/C\ is low.", 19 D3 (hiz) "Data bit 3. Hi-Z state when C\S\ is high, or when R/C\ is low.", 20 D2 (hiz) "Data bit 2. Hi-Z state when C\S\ is high, or when R/C\ is low.", 21 D1 (hiz) "Data bit 1. Hi-Z state when C\S\ is high, or when R/C\ is low.", 22 D0 (LSB) (hiz) "Data bit 0. Least significant bit (LSB) of conversion results. Hi-Z state when C\S\ is high, or when R/C\ is low.", 23 BYTE (in) "Selects 8 most significant bits (low) or 8 least significant bits (high).", 24 R/~{C} (in) "With C\S\ low and B\U\S\Y\ high, a falling edge on R/C\ initiates a new conversion. With C\S\ low, a rising edge on R/C\ enables the parallel output.", 25 ~{CS} (in) "Internally ORed with R/C\. If R/C\ is low, a falling edge on C\S\ initiates a new conversion", 26 ~{BUSY} (out) "At the start of a conversion, B\U\S\Y\ goes low and stays low until the conversion is completed and the digital outputs have been updated.", 27 VANA (power) "Analog supply input. Nominally +5 V. Decouple to ground with 0.1-uF ceramic and 10-uF tantalum capacitors.", 28 VDIG (power) "Digital supply input. Nominally +5 V. Connect directly to pin 27. Must be =< VANA ."

## ADS8508IBDW
designator U?
12-Bit 250 kHz CMOS ADC with Serial Interface 2.5 V Internal Reference, -40 to 85 degC, 20-pin SOIC (DW20), Green (RoHS & no Sb/Br); Manufacturer: Texas Instruments; PartNumber: ADS8508IBDW; # Input Channels: 1; Analog Voltage AV/DD(Max)(V): 5.25; Analog Voltage AV/DD(Min)(V): 4.75; Architecture: SAR; INL(Max)(+/-LSB): 0.45; Interface: Serial SPI; Resolution(Bits): 12; Sample Rate (max)(SPS): 250k; SFDR(dB): 95; SINAD(dB): 73; SubFamily: Precision ADC (<=10MSPS); DatasheetVersion: SLAS433; PackageVersion: 4040000-4/G, 01/2011; PackageReference: DW20; PackageDescription: 20-Pin Plastic Small Outline, Body 12.8 x 7.5 mm, Pitch 1.27 mm; Supplier 1: Digi-Key; Supplier Part Number 1: ADS1286PLG4-ND; Digital Supply(Max)(V): 5.25; Digital Supply(Min)(V): 4.75; Eco-Plan: Green (RoHS & no Sb/Br); SNR(dB): 73; Mounting Technology: Surface Mount; Code_JEDEC: MO-013; ComponentLink1Description: Manufacturer URL; ComponentLink1URL: http://www.ti.com/; ComponentLink2Description: Datasheet; ComponentLink2URL: http://www.ti.com/general/docs/lit/getliterature.tsp?genericPartNumber=ADS8508&fileType=pdf; ComponentLink3Description: Package Specification; ComponentLink3URL: http://www.ti.com/lit/ml/mpds173a/mpds173a.pdf
footprint TI-DW20_N (SOIC, 20-Leads, Body 12.8x7.5mm, Pitch 1.27mm, IPC Medium Density)
footprint TI-DW20_L (SOIC, 20-Leads, Body 12.8x7.5mm, Pitch 1.27mm, IPC High Density)
footprint TI-DW20_M (SOIC, 20-Leads, Body 12.8x7.5mm, Pitch 1.27mm, IPC Low Density)
pins: 1 R1IN (in) "Analog input.", 2 AGND1 (power) "Analog ground. Used internally as ground reference point. Minimal current flow.", 3 R2IN (in) "Analog input.", 4 R3IN (in) "Analog input.", 5 CAP "Reference buffer capacitor. 2.2-uF Tantalum to ground.", 6 REF (io) "Reference input/output. Outputs internal 2.5-V reference. Can also be driven by external system reference. In both cases, bypass to ground with a 2.2-uF tantalum capacitor.", 7 AGND2 (power) "Analog ground", 8 SB/~{BTC} (in) "Select straight binary or binary 2's complement data output format. If high, data is output in a straight binary format. If low, data is output in a binary 2's complement format.", 9 EXT/~{INT} (in) "Selects external or internal clock for transmitting data. If high, data is output synchronized to the clock input on DATACLK. If low, a convert command initiates the transmission of the data from the previous conversion, (See Datasheet)", 10 DGND (power) "Digital ground", 11 SYNC (out) "Sync output. This pin is used to supply a data synchronization pulse when the EXT level is high and at least one external clock pulse has occurred when not in the read mode. See the external clock modes desciptions.", 12 DATACLK (io) "Either an input or an output depending on the EXT/I\N\T\ level. Output data is synchronized to this clock. If EXT/I\N\T\ is low, DATACLK transmits 16 pulses after each conversion and then remains low between conversions.", 13 DATA (out) "Serial data output. Data is synchronized to DATACLK with the format determined by the level of SB/B\T\C\. In the external clock mode, after 16 bits of data, the ADS8509 outputs the level input on TAG as long as C\S\ is low (See Datasheet)", 14 TAG (in) "Tag input for use in the external clock mode. If EXT is high, digital data input from TAG is output on DATA with a delay that is dependent on the external clock mode.", 15 R/~{C} (in) "Read/convert input. With C\S\ low, a falling edge on R/C\ puts the internal sample-and-hold into the hold state and starts a conversion. When EXT/I\N\T\ is low, this also initiates the transmission of the data results from (See Datasheet)", 16 ~{CS} (in) "Chip select. Internally ORed with R/C\.", 17 ~{BUSY} (out) "Busy output. Falls when a conversion is started and remains low until the conversion is completed and the data is latched into the output shift register.", 18 PWRD (in) "Power down input. If high, conversions are inhibited and power consumption is significantly reduced. Results from the previous conversion are maintained in the output shift register.", 19 VANA (power) "Analog supply input. Nominally +5 V. Connect directly to pin 20 and decouple to ground with 0.1-uF ceramic and 10-uF tantalum capacitors.", 20 VDIG (power) "Digital supply input. Nominally +5 V. Connect directly to pin 19. Must be =< VANA."